# Altium schematic symbol library Regulator.SchLib: 2 symbols
Pins are listed as number, name and electrical type; pins without a type are passive.

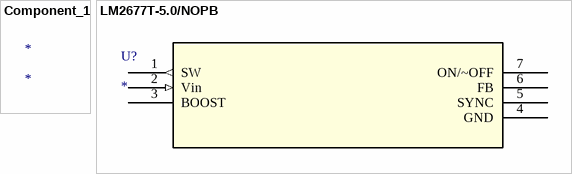
[diagram p0: symbols Component_1 to LM2677T-5.0/NOPB]

## Component_1
designator *

## LM2677T-5.0/NOPB
designator U?
Imported; Manufacturer_Part_Number: LM2677T-5.0/NOPB; Vendor: Texas Instruments; Built_By: EMA_UL_Team; C: Copyright (C) 2015 Accelerated Designs. All rights reserved; RefDes: RefDes; Type: DEV; Value: Value
footprint TA07B
pins: 1 SW (out), 2 Vin (in), 3 BOOST, 4 GND, 5 SYNC, 6 FB, 7 ON/~OFF